# Altium footprint library WB_SFP(QSFP+)Connecter.PcbLib: 6 footprints
Each footprint in its own frame and in the unit in brackets; x right, y up, seen from the top. Pads: shape width x height; smd on the part's side, far side on the other; paste and mask are expansions set on the pad; w line width, h text height; cw(c..) or ccw(c..) is an arc to the next point about the centre after c.
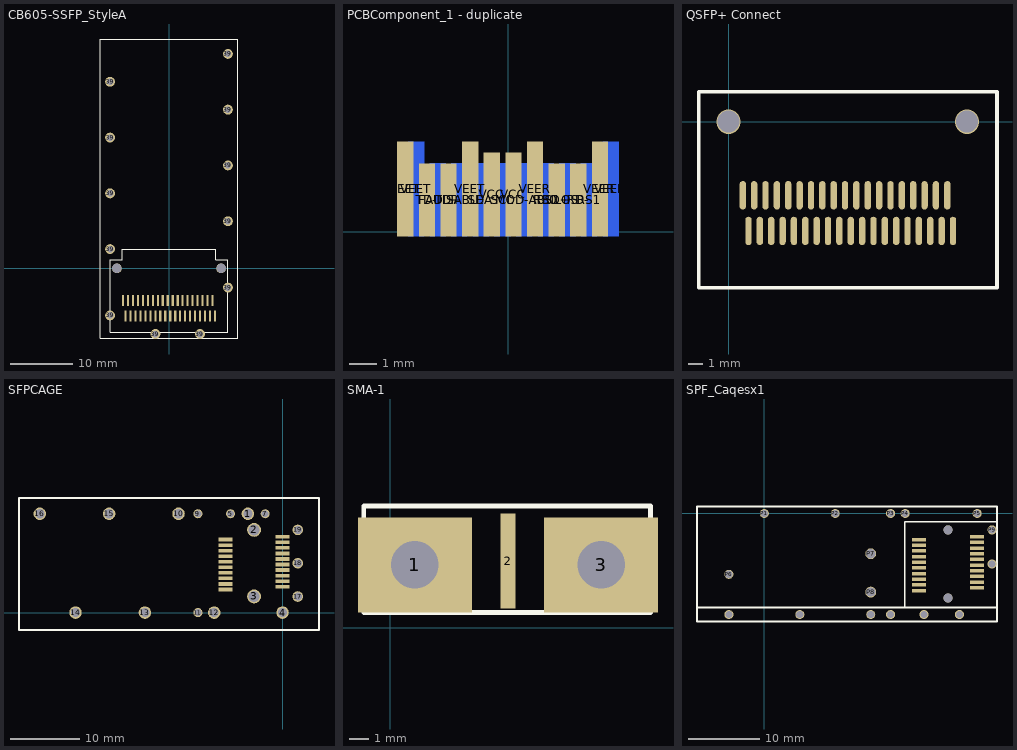
[diagram p0: the footprints below, top view; thin cyan lines are the x and y axes]

## CB605-SSFP_StyleA [mm]
pads (52):
  rect 0.35x1.8 smd: 1(7,-5.18) 2(6.2,-5.18) 3(5.4,-5.18) 4(4.6,-5.18) 5(3.8,-5.18) 6(3,-5.18) 7(2.2,-5.18) 8(1.4,-5.18) 9(0.6,-5.18) 10(-0.2,-5.18) 11(-1,-5.18) 12(-1.8,-5.18) 13(-2.6,-5.18) 14(-3.4,-5.18) 15(-4.2,-5.18) 16(-5,-5.18) 17(-5.8,-5.18) 18(-6.6,-5.18) 19(-7.4,-5.18) 20(-7,-7.69) 21(-6.2,-7.69) 22(-5.4,-7.69) 23(-4.6,-7.69) 24(-3.8,-7.69) 25(-3,-7.69) 26(-2.2,-7.69) 27(-1.4,-7.69) 28(-0.6,-7.69) 29(0.2,-7.69) 30(1,-7.69) 31(1.8,-7.69) 32(2.6,-7.69) 33(3.4,-7.69) 34(4.2,-7.69) 35(5,-7.69) 36(5.8,-7.69) 37(6.6,-7.69) 38(7.4,-7.69)
  round 1.6 hole 1.05: 39(-9.5,-7.6) 39(-9.5,3.1) 39(-9.5,12.1) 39(-9.5,21.1) 39(-9.5,30.1) 39(-2.2,-10.6) 39(5,-10.6) 39(9.5,-3.1) 39(9.5,7.6) 39(9.5,16.6) 39(9.5,25.6) 39(9.5,34.6)
  round 1.55 hole 1.55: ""(-8.4,0) ""(8.4,0)
Top Overlay:
  lines w0.1: -11.075,-11.3 11.075,-11.3 11.075,37 -11.075,37 -11.075,-11.3 ; -9.5,-10.3 9.5,-10.3 9.5,1.36 7.51,1.36 7.51,3.05 -7.51,3.05 -7.51,1.36 -9.5,1.36 -9.5,-10.3

## PCBComponent_1 - duplicate [mm]
pads (20):
  rect 0.6x2.7 smd far side: DISABLE(-1.813,1.188) FAULT(-2.613,1.188) LOS(2.187,1.188) MOD-ABS(0.587,1.188) RS0(1.387,1.188) RS1(2.987,1.188) SCL(-0.213,1.188) SDA(-1.013,1.188)
  rect 0.6x2.7 smd: RD+(1.787,1.188) RD-(2.587,1.188) TD+(-2.213,1.188) TD-(-3.013,1.188)
  rect 0.6x3.1 smd: VCC(-0.613,1.388) VCC(0.187,1.388)
  rect 0.6x3.5 smd: VEER(0.987,1.588) VEER(3.387,1.588) VEET(-3.813,1.588) VEET(-1.413,1.588)
  rect 0.6x3.5 smd far side: VEER(3.787,1.588) VEET(-3.413,1.588)

## QSFP+ Connect [mm] "38PIN"
height 5.8
pads (40):
  oval 0.45x2 smd: 2(1,-5.18) 3(1.4,-7.69) 4(1.8,-5.18) 5(6.2,-7.69) 6(2.6,-5.18) 7(3.4,-5.18) 8(4.2,-5.18) 9(5.8,-5.18) 10(5,-5.18) 11(6.6,-5.18) 12(7.4,-5.18) 13(8.2,-5.18) 14(9,-5.18) 15(9.8,-5.18) 16(10.6,-5.18) 17(11.4,-5.18) 18(12.2,-5.18) 20(13,-5.18) 21(13.8,-5.18) 22(14.6,-5.18) 23(15.4,-5.18) 24(15,-7.69) 25(15.8,-7.69) 26(14.2,-7.69) 27(13.4,-7.69) 28(12.6,-7.69) 29(11.8,-7.69) 30(11,-7.69) 31(10.2,-7.69) 32(8.6,-7.69) 33(9.4,-7.69) 34(7.8,-7.69) 35(7,-7.69) 36(5.4,-7.69) 37(4.6,-7.69) 39(3.8,-7.69) 40(3,-7.69) 41(2.2,-7.69)
  oval 0.25x1.8 smd: 38(3.8,-7.69)
  round 0.25 on Top Overlay: 43(-2.1,2.1)
via 0,0 diameter 1.7 hole 1.55
via 16.8,0 diameter 1.7 hole 1.55
Top Overlay:
  lines w0.254: -2.1,-11.7 -2.1,2.1 18.9,2.1 18.9,-11.7 -2.1,-11.7

## SFPCAGE [mm]
height 10
pads (37):
  rect 2x0.53 smd: 1(-8.204,10.523) 2(-8.204,9.723) 3(-8.204,8.923) 4(-8.204,8.123) 5(-8.204,7.323) 6(-8.204,6.523) 7(-8.204,5.723) 8(-8.204,4.923) 9(-8.204,4.123) 10(-8.204,3.323) 11(-0.004,3.723) 12(-0.004,4.523) 13(-0.004,5.323) 14(-0.004,6.123) 15(-0.004,6.923) 16(-0.004,7.723) 17(-0.004,8.523) 18(-0.004,9.323) 19(-0.004,10.123) 20(-0.004,10.923)
  round 1.8 hole 1.3: 1(-5.004,14.243) 4(-0.004,-0.007) 10(-15.004,14.243) 12(-9.854,-0.007) 13(-19.854,-0.007) 14(-29.854,-0.007) 15(-25.004,14.243) 16(-35.004,14.243)
  round 2 hole 1.6: 2(-4.104,11.923) 3(-4.104,2.323)
  round 1.3 hole 1: 5(-7.504,14.243) 7(-2.504,14.243) 9(-12.204,14.243) 11(-12.204,-0.007)
  round 1.524 hole 1.143: 17(2.196,2.313) 18(2.196,7.113) 19(2.196,11.913)
Top Overlay:
  lines w0.3: -38,-2.5 5.25,-2.5 5.25,16.5 4.5,16.5 -38,16.5 -38,-2.5

## SMA-1 [mm]
height 8
pads (3):
  rect 6x5 smd: 1(1.3,3.3) 3(11.1,3.3)
  rect 0.8x5 smd: 2(6.2,3.5)
via 1.3,3.3 diameter 2.5 hole 2.5
via 11.1,3.3 diameter 2.5 hole 2.5
Top Overlay:
  lines w0.254: -1.4,0.8 -1.4,6.4 -1,6.4 13.7,6.4 13.7,0.8 -1.4,0.8

## SPF_Caqesx1 [mm]
height 1.91
pads (38):
  rect 2x0.5 smd: A1(21.809,-3.68) A2(21.809,-4.48) A3(21.809,-5.28) A4(21.809,-6.08) A5(21.809,-6.88) A6(21.809,-7.68) A7(21.809,-8.48) A8(21.809,-9.28) A9(21.809,-10.08) A10(21.809,-10.88) A11(30.009,-10.48) A12(30.009,-9.68) A13(30.009,-8.88) A14(30.009,-8.08) A15(30.009,-7.28) A16(30.009,-6.48) A17(30.009,-5.68) A18(30.009,-4.88) A19(30.009,-4.08) A20(30.009,-3.28)
  round 1.27 hole 1.27: A21(25.909,-2.316) A22(25.909,-11.916)
  round 1.27 hole 1: P1(0,0) P2(10,0) P3(17.809,0) P4(19.859,0) P5(30.009,0) P9(32.109,-2.316) P10(32.109,-7.116) P13(15.009,-14.25) P14(17.809,-14.25) P15(22.509,-14.25) P16(27.509,-14.25)
  round 1.27 hole 1.05: P6(-4.991,-8.58)
  round 1.524 hole 1.3: P7(15.009,-5.68) P8(15.009,-11.08)
  round 1.27 hole 1.016: P11(-4.991,-14.25) P12(5.009,-14.25)
Top Overlay:
  lines w0.203: 32.809,-13.25 19.774,-13.25 19.774,-1.143 32.809,-1.143
  lines w0.254: -9.488,-13.251 32.811,-13.251 ; -9.488,0.999 -9.488,-15.248 32.811,-15.248 ; -9.487,1 32.809,1 32.809,-15.246